# Altium integrated library OP-AMPS.IntLib: 3 symbols
Pins are listed as number, name and electrical type; pins without a type are passive.

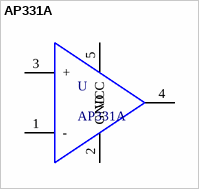
[diagram p0: symbol AP331A]

## AP331A
designator U
Single Channel Comparator, Open Drain, SC-74A/SOT-753; Supplier 1: Digikey; Supplier Part Number 1: AP331AWGDICT-ND
footprint SOT95P285X130-5N (SOT23, 5-Leads, Body 3.00x2.85mm, Pitch 0.95mm, IPC Medium Density)
pins: 1 - "VIN-", 2 GND, 3 + "VIN+", 4 VOUT, 5 VCC


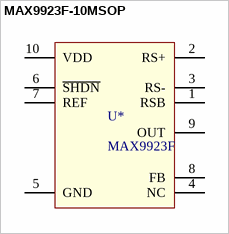
[diagram p1: symbol MAX9923F-10MSOP]

## MAX9923F-10MSOP
designator U*, comment MAX9923F
IC OPAMP CURR SENS 2.5KHZ 250V/V GAIN; Supplier 1: Digi-Key; Supplier Part Number 1: MAX9923FEUB+-ND
footprint TSSOP50P490X110-10N (TSSOP, 10-Leads, Body 3.00x3.00mm, Pitch 0.50mm, IPC Medium Density)
pins: 1 RSB, 2 RS+ (power), 3 RS- (power), 4 NC, 5 GND, 6 ~{SHDN}, 7 REF, 8 FB, 9 OUT, 10 VDD


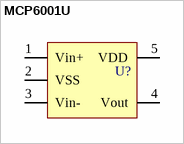
[diagram p2: symbol MCP6001U]

## MCP6001U
designator U?  (value not drawn)
footprint MCP6001UT
pins: 1 Vin+, 2 VSS, 3 Vin-, 4 Vout, 5 VDD